# EAGLE library part 653106124022 (library Wire_to_Board_Connectors_rev15d)
WR-WTB 1.25mm SMT Male Vertical Shrouded Header, 6 Pins=>Code : Con_WTB_1.25_PCB_SMT_653106124022 <http://katalog.we-online.de/media/thumbs2/eican/thb_Con_WTB_1.25_PCB_SMT_6530xx124022_pf2.psd.jpg> Details see: http://katalog.we-online.de/en/em/653_1xx_124_022 Created 2014-06-06, Karrer Zheng 2014 (C) Würth Elektronik
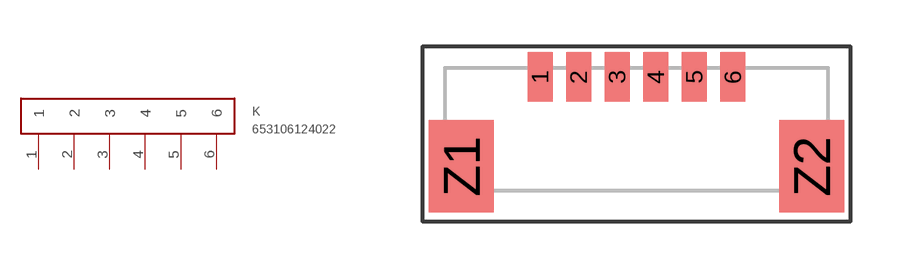
[diagram p53: symbol with the pads of 653106124022; footprint 653106124022]

Designator prefix K

## 653106124022  [653106124022]
1  1  pas
2  2  pas
3  3  pas
4  4  pas
5  5  pas
6  6  pas

## Footprint 653106124022 (pad centres in mm)
WR-WTB 1.25mm SMT Male Vertical Shrouded Header, 6 Pins
smd 0.81 x 1.6: 1 -0.625,0; 2 0.625,0; 3 1.875,0; 4 3.125,0; 5 4.375,0; 6 5.625,0
smd 2.1 x 3: Z1 -3.175,-2.9; Z2 8.175,-2.9